# EAGLE library part ATTINY45 (library IC - uC - AVR)
MICROCONTROLLER 4 Kbytes FLASH 256 bytes EEPROM 256 bytes RAM 4-channel 10 bit ADC USI
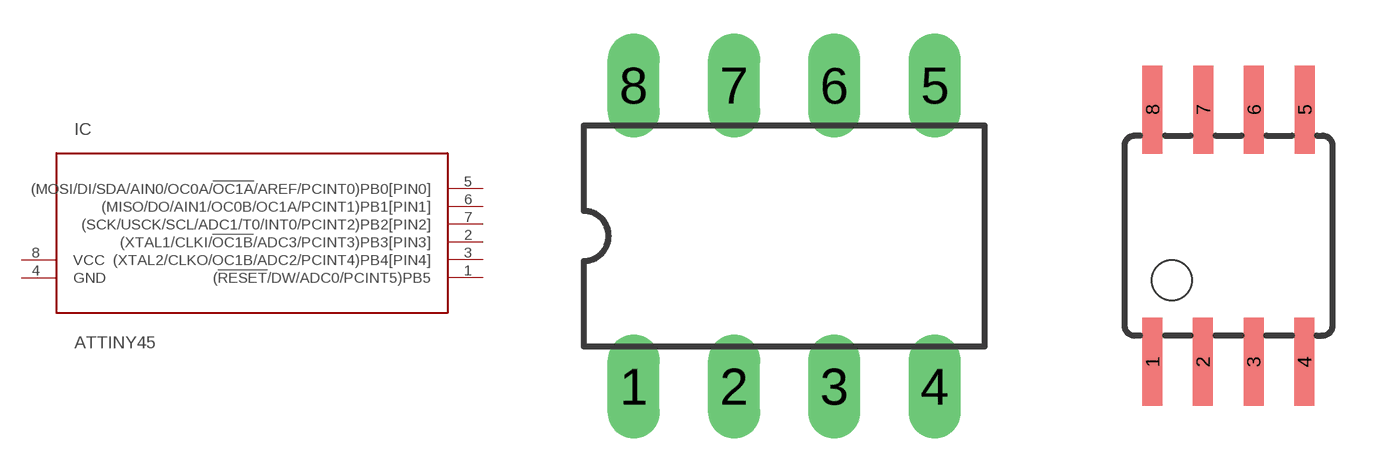
[diagram p70: symbol with the pads of DIL08; footprints DIL08, SOIC8]

Designator prefix IC

## ATTINY45-20P, ATTINY45V-10P  [DIL08]
1  (!RESET!/DW/ADC0/PCINT5)PB5
2  (XTAL1/CLKI/!OC1B!/ADC3/PCINT3)PB3[PIN3]
3  (XTAL2/CLKO/OC1B/ADC2/PCINT4)PB4[PIN4]
4  GND
5  (MOSI/DI/SDA/AIN0/OC0A/!OC1A!/AREF/PCINT0)PB0[PIN0]
6  (MISO/DO/AIN1/OC0B/OC1A/PCINT1)PB1[PIN1]
7  (SCK/USCK/SCL/ADC1/T0/INT0/PCINT2)PB2[PIN2]
8  VCC

## ATTINY45-20S, ATTINY45V-10S  [SOIC8]
Pads as for DIL08

## Footprint DIL08 (pad centres in mm)
Dual In Line
drill 0.813 long: 1 -3.81,-3.81; 2 -1.27,-3.81; 3 1.27,-3.81; 4 3.81,-3.81; 5 3.81,3.81; 6 1.27,3.81; 7 -1.27,3.81; 8 -3.81,3.81

## Footprint SOIC8 (pad centres in mm)
Wide Plastic Gull Wing Small Outline Package
smd 0.5 x 2.2: 1 -1.905,-3.154; 2 -0.645,-3.154; 3 0.625,-3.154; 4 1.895,-3.154; 5 1.905,3.154; 6 0.635,3.154; 7 -0.635,3.154; 8 -1.905,3.154